# Altium integrated library DIP-16.IntLib: 1 symbol
Pins are listed as number, name and electrical type; pins without a type are passive.

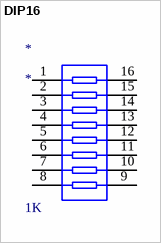
[diagram p0: symbol DIP16]

## DIP16
designator *  R?: 1K
footprint DIP16 - duplicate
pins: 1, 2, 3, 4, 5, 6, 7, 8, 9, 10, 11, 12, 13, 14, 15, 16